# Altium schematic symbol library LT8722AVPBF.SchLib: 1 symbol
Pins are listed as number, name and electrical type; pins without a type are passive.

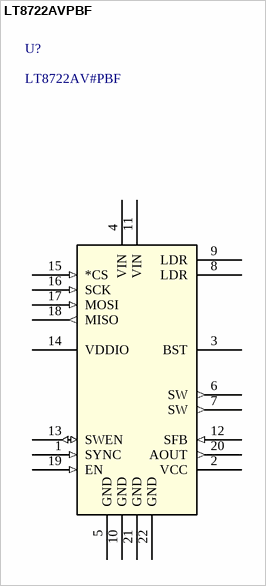
[diagram p0: symbol LT8722AVPBF]

## LT8722AVPBF
designator U?, comment LT8722AV#PBF
Ultracompact 4A, 15V, Full Bridge Driver with SPI; Manufacturer_Name: Analog Devices Inc; Copyright: Copyright (C) 2025 Ultra Librarian. All rights reserved.; Manufacturer_Part_Number: LT8722AV#PBF; RefDes: RefDes; Type: Type
footprint LQFN18_3X3X0.95_ADI
pins: 1 SYNC (in), 2 VCC (power), 3 BST (power), 4 VIN (power), 5 GND (power), 6 SW (out), 7 SW (out), 8 LDR (power), 9 LDR (power), 10 GND (power), 11 VIN (power), 12 SFB (in), 13 SWEN (io), 14 VDDIO (power), 15 *CS (in), 16 SCK (in), 17 MOSI (in), 18 MISO (out), 19 EN (in), 20 AOUT (out), 21 GND (power), 22 GND (power)